# Altium schematic symbol library CC2530.SchLib: 1 symbol
Pins are listed as number, name and electrical type; pins without a type are passive.

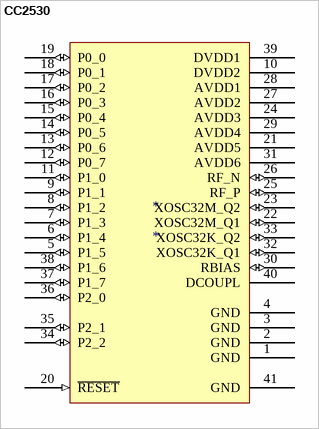
[diagram p0: symbol CC2530]

## CC2530
designator *
pins: 1 GND (power) "未使用的引脚，连接到GND", 2 GND (power) "未使用的引脚，连接到GND", 3 GND (power) "未使用的引脚，连接到GND", 4 GND (power) "未使用的引脚，连接到GND", 5 P1_5 (io) "端口 1.5", 6 P1_4 (io) "端口 1.4", 7 P1_3 (io) "端口 1.3", 8 P1_2 (io) "端口 1.2", 9 P1_1 (io) "端口 1.1", 10 DVDD2 (power) "2V-3.6V数字电源", 11 P1_0 (io) "端口 1.0（20mA驱动能力）", 12 P0_7 (io) "端口 0.7", 13 P0_6 (io) "端口 0.6", 14 P0_5 (io) "端口 0.5", 15 P0_4 (io) "端口 0.4", 16 P0_3 (io) "端口 0.3", 17 P0_2 (io) "端口 0.2", 18 P0_1 (io) "端口 0.1", 19 P0_0 (io) "端口 0.0", 20 ~{RESET} (in) "复位", 21 AVDD5 (power) "2V-3.6V模拟电源", 22 XOSC32M_Q1 (io) "32MHz晶振引脚1或外部时钟输入", 23 XOSC32M_Q2 (io) "32MHz晶振引脚2", 24 AVDD3 (power) "2V-3.6V模拟电源", 25 RF_P (io) "RF信号正极", 26 RF_N (io) "RF信号负极", 27 AVDD2 (power) "2V-3.6V模拟电源", 28 AVDD1 (power) "2V-3.6V模拟电源", 29 AVDD4 (power) "2V-3.6V模拟电源", 30 RBIAS (io) "偏压电阻接口", 31 AVDD6 (power) "2V-3.6V模拟电源", 32 XOSC32K_Q1 (io) "端口2.4或32.768kHz晶振1", 33 XOSC32K_Q2 (io) "端口2.3或32.768kHz晶振2", 34 P2_2 (io) "端口2.2", 35 P2_1 (io) "端口2.1", 36 P2_0 (io) "端口2.0", 37 P1_7 (io) "端口1.7", 38 P1_6 (io) "端口1.6", 39 DVDD1 (power) "2V-3.6V数字电源", 40 DCOUPL (power) "提供1.8V去耦电压，不能供外部电路使用", 41 GND (power) "接地"